# Altium schematic symbol library AD7656.Schlib: 1 symbol
Pins are listed as number, name and electrical type; pins without a type are passive.

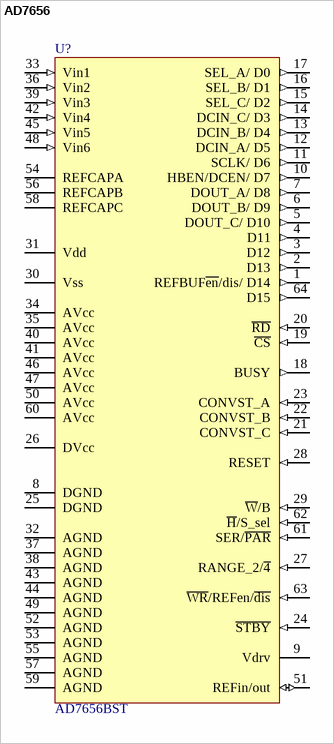
[diagram p0: symbol AD7656]

## AD7656
designator U?, comment AD7656BST
250 kSPS, 6-Channel, Simultaneous Sampling, Bipolar 16-/14-/12-Bit ADC; Package Information: Latest Revision: ver11.0, Feb-2003; Configures: APEX II, APEX 20K, Mercury, ACEX 1K & FLEX Devices; Code - JEDEC: MS-026-ABA; Published: 17-Sep-2003; Datasheet: Latest Revision: ver1.1, Oct-2003; Package Reference: TQFP32; Publisher: Altium Limited
footprint TQFP_64_PIC24
pins: 1 REFBUF~{en}/dis/ D14 (out), 2 D13 (out), 3 D12 (out), 4 D11 (out), 5 DOUT_C/ D10 (out), 6 DOUT_B/ D9 (out), 7 DOUT_A/ D8 (out), 8 DGND (power), 9 Vdrv (power), 10 HBEN/DCEN/ D7 (out), 11 SCLK/ D6 (out), 12 DCIN_A/ D5 (out), 13 DCIN_B/ D4 (out), 14 DCIN_C/ D3 (out), 15 SEL_C/ D2 (out), 16 SEL_B/ D1 (out), 17 SEL_A/ D0 (out), 18 BUSY (out), 19 ~{CS} (in), 20 ~{RD} (in), 21 CONVST_C (in), 22 CONVST_B (in), 23 CONVST_A (in), 24 ~{STBY} (in), 25 DGND (power), 26 DVcc (power), 27 RANGE_2/~{4} (in), 28 RESET (in), 29 ~{W}/B (in), 30 Vss (power), 31 Vdd (power), 32 AGND (power), 33 Vin1 (in), 34 AVcc (power), 35 AVcc (power), 36 Vin2 (in), 37 AGND (power), 38 AGND (power), 39 Vin3 (in), 40 AVcc (power), 41 AVcc (power), 42 Vin4 (in), 43 AGND (power), 44 AGND (power), 45 Vin5 (in), 46 AVcc (power), 47 AVcc (power), 48 Vin6 (in), 49 AGND (power), 50 AVcc (power), 51 REFin/out (io), 52 AGND (power), 53 AGND (power), 54 REFCAPA (power), 55 AGND (power), 56 REFCAPB (power), 57 AGND (power), 58 REFCAPC (power), 59 AGND (power), 60 AVcc (power), 61 SER/~{PAR} (in), 62 ~{H}/S_sel (in), 63 ~{WR}/REFen/~{dis} (in), 64 D15 (out)